# Altium footprint library Alpha-1.PcbLib: 19 footprints (part 2 of 2)
Each footprint in its own frame and in the unit in brackets; x right, y up, seen from the top. Pads: shape width x height; smd on the part's side, far side on the other; paste and mask are expansions set on the pad; w line width, h text height; cw(c..) or ccw(c..) is an arc to the next point about the centre after c.
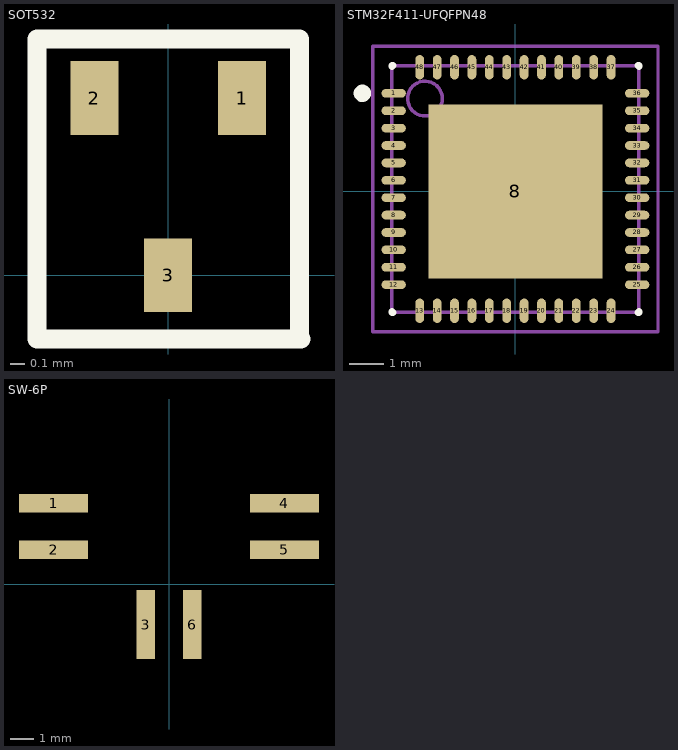
[diagram p1: the footprints below, top view; thin cyan lines are the x and y axes]

## SOT532 [mm]
height 2
pads (3):
  rect 0.325x0.5 smd: 1(0.5,1.2) 2(-0.5,1.2) 3(0,0)
Top Overlay:
  lines w0.127: 0.889,-0.381 0.889,1.6 -0.889,1.6 -0.889,-0.432 0.9,-0.432

## STM32F411-UFQFPN48 [mm]
height 2
pads (49):
  oval 0.7x0.25 smd: 1(-3.5,2.82) 2(-3.5,2.32) 3(-3.5,1.82) 4(-3.5,1.32) 5(-3.5,0.82) 6(-3.5,0.32) 7(-3.5,-0.18) 8(-3.5,-0.68) 9(-3.5,-1.18) 10(-3.5,-1.68) 11(-3.5,-2.18) 12(-3.5,-2.68) 25(3.5,-2.68) 26(3.5,-2.18) 27(3.5,-1.68) 28(3.5,-1.18) 29(3.5,-0.68) 30(3.5,-0.18) 31(3.5,0.32) 32(3.5,0.82) 33(3.5,1.32) 34(3.5,1.82) 35(3.5,2.32) 36(3.5,2.82)
  rect 5x5 smd: 8(0,0)
  oval 0.25x0.7 smd: 13(-2.75,-3.43) 14(-2.25,-3.43) 15(-1.75,-3.43) 16(-1.25,-3.43) 17(-0.75,-3.43) 18(-0.25,-3.43) 19(0.25,-3.43) 20(0.75,-3.43) 21(1.25,-3.43) 22(1.75,-3.43) 23(2.25,-3.43) 24(2.75,-3.43) 37(2.75,3.57) 38(2.25,3.57) 39(1.75,3.57) 40(1.25,3.57) 41(0.75,3.57) 42(0.25,3.57) 43(-0.25,3.57) 44(-0.75,3.57) 45(-1.25,3.57) 46(-1.75,3.57) 47(-2.25,3.57) 48(-2.75,3.57)
Top Overlay:
  circle w0.25: c-4.4,2.82 r0.125
  lines w0.2: -3.55,-3.455 -3.55,-3.48 -3.525,-3.48 ; -3.55,3.595 -3.55,3.62 -3.525,3.62 ; 3.525,-3.48 3.55,-3.48 3.55,-3.455 ; 3.525,3.62 3.55,3.62 3.55,3.595
Mechanical 13:
  circle w0.1: c-2.6,2.67 r0.5
  lines w0.1: -3.55,-3.48 3.55,-3.48 3.55,3.62 -3.55,3.62 -3.55,-3.48
Mechanical 15:
  lines w0.1: -0.5,0.07 0.5,0.07 ; 0,-0.43 0,0.57 ; -4.1,-4.03 4.1,-4.03 4.1,4.17 -4.1,4.17 -4.1,-4.03
3D body: height 0.55, standoff 0.02, extent -3.55,-3.48 3.55,3.62

## SW-6P [mm]
pads (6):
  rect 3x0.8 smd: 1(-5,3.5) 2(-5,1.5) 4(5,3.5) 5(5,1.5)
  rect 0.8x3 smd: 3(-1,-1.75) 6(1,-1.75)